# EAGLE library part FAN7388 (library svBGC)
FAIRCHILD SEMICONDUCTORS 3 Half-Bridge Gate-Drive IC
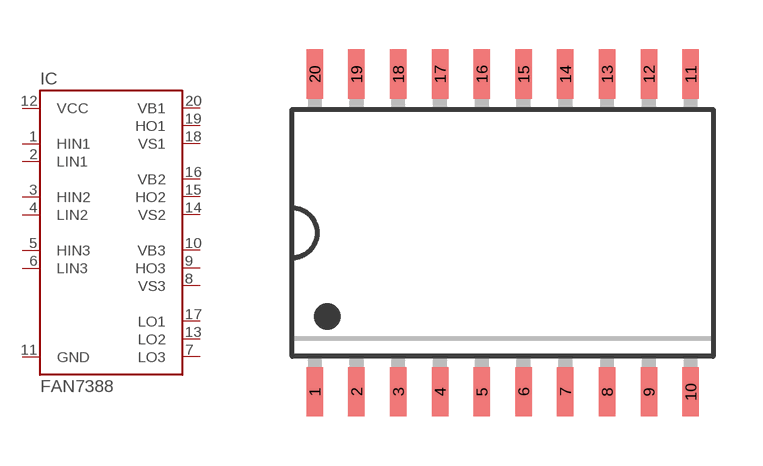
[diagram p12: symbol with the pads of SOIC-20; footprint SOIC-20]

Designator prefix IC

## FAN7388  [SOIC-20]
1  HIN1  in
2  LIN1  in
3  HIN2  in
4  LIN2  in
5  HIN3  in
6  LIN3  in
7  LO3  out
8  VS3  in
9  HO3  out
10  VB3  in
11  GND  pwr
12  VCC  in
13  LO2  out
14  VS2  in
15  HO2  out
16  VB2  in
17  LO1  out
18  VS1  in
19  HO1  out
20  VB1  in

## Footprint SOIC-20 (pad centres in mm)
smd 0.5 x 1.5: 1 -5.715,-4.826; 2 -4.445,-4.826; 3 -3.175,-4.826; 4 -1.905,-4.826; 5 -0.635,-4.826; 6 0.635,-4.826; 7 1.905,-4.826; 8 3.175,-4.826; 9 4.445,-4.826; 10 5.715,-4.826; 11 5.715,4.826; 12 4.445,4.826; 13 3.175,4.826; 14 1.905,4.826; 15 0.635,4.826; 16 -0.635,4.826; 17 -1.905,4.826; 18 -3.175,4.826; 19 -4.445,4.826; 20 -5.715,4.826